# EAGLE library part KK156-11 (library con-molex-kk)
HEADER
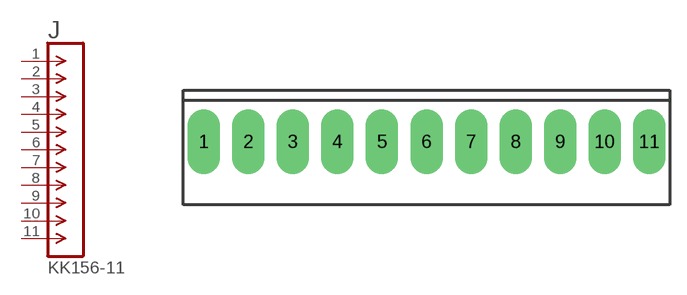
[diagram p170: symbol with the pads of KK156-11; footprint KK156-11]

Designator prefix J

## KK156-11  [KK156-11]
1  1  pas
2  2  pas
3  3  pas
4  4  pas
5  5  pas
6  6  pas
7  7  pas
8  8  pas
9  9  pas
10  10  pas
11  11  pas

## Footprint KK156-11 (pad centres in mm)
HEADER - 0.156" SPOX 5273 Series
drill 1.93 long: 1 -19.812,0; 2 -15.85,0; 3 -11.887,0; 4 -7.925,0; 5 -3.962,0; 6 0,0; 7 3.962,0; 8 7.925,0; 9 11.887,0; 10 15.85,0; 11 19.812,0